# EAGLE library part SI53360 (library yapo)
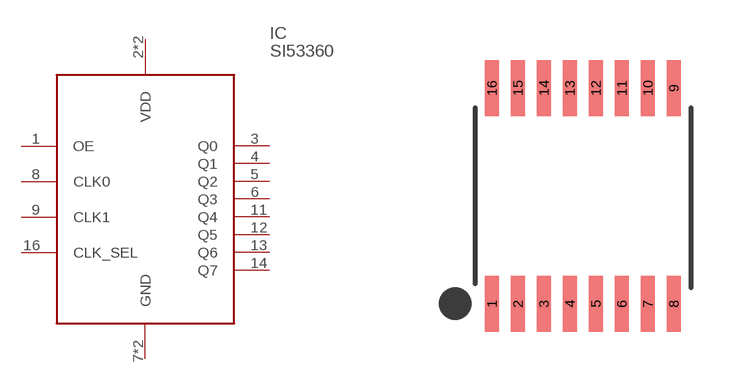
[diagram p71: symbol with the pads of TSSOP16; footprint TSSOP16]

Designator prefix IC

## SI53360TSSOP16  [TSSOP16]
1  OE
2  VDD
3  Q0
4  Q1
5  Q2
6  Q3
7  GND
8  CLK0
9  CLK1
10  GND
11  Q4
12  Q5
13  Q6
14  Q7
15  VDD
16  CLK_SEL

## Footprint TSSOP16 (pad centres in mm)
smd 0.35 x 1.4: 1 -2.275,-2.7; 2 -1.625,-2.7; 3 -0.975,-2.7; 4 -0.325,-2.7; 5 0.325,-2.7; 6 0.975,-2.7; 7 1.625,-2.7; 8 2.275,-2.7; 9 2.275,2.7; 10 1.625,2.7; 11 0.975,2.7; 12 0.325,2.7; 13 -0.325,2.7; 14 -0.975,2.7; 15 -1.625,2.7; 16 -2.275,2.7